# Altium footprint library DSUB_15position_5748026_1.PcbLib: 1 footprints
Each footprint in its own frame and in the unit in brackets; x right, y up, seen from the top. Pads: shape width x height; smd on the part's side, far side on the other; paste and mask are expansions set on the pad; w line width, h text height; cw(c..) or ccw(c..) is an arc to the next point about the centre after c.
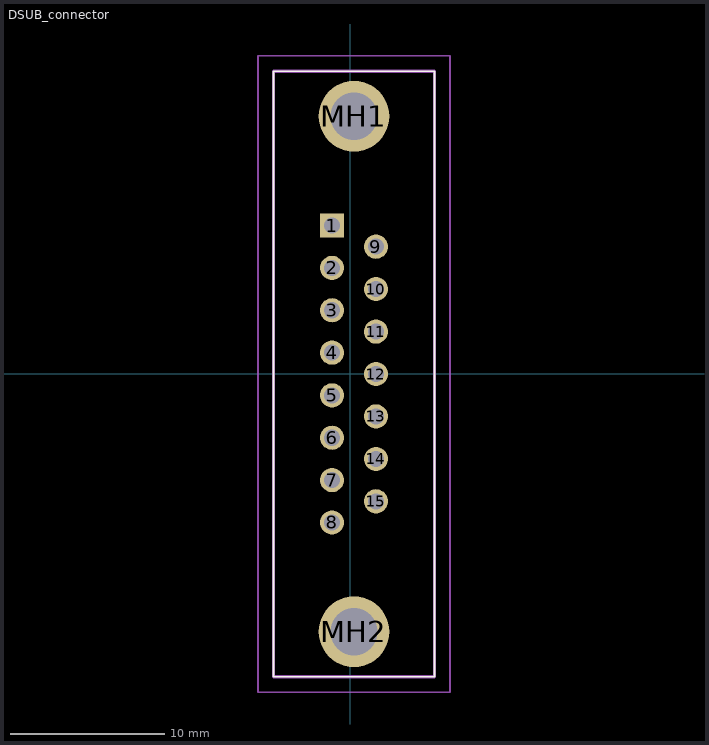
[diagram p0: the footprint, top view; thin cyan lines are the x and y axes]

## DSUB_connector [mm]
pads (17):
  rect 1.56x1.56 hole 1.04: 1(-1.189,9.597)
  round 1.56 hole 1.04: 2(-1.189,6.857) 3(-1.189,4.117) 4(-1.189,1.377) 5(-1.189,-1.383) 6(-1.189,-4.123) 7(-1.189,-6.863) 8(-1.189,-9.603) 9(1.651,8.227) 10(1.651,5.487) 11(1.651,2.737) 12(1.651,-0.003) 13(1.651,-2.743) 14(1.651,-5.493) 15(1.651,-8.233)
  round 4.575 hole 3.05: MH1(0.231,16.657) MH2(0.231,-16.663)
Top Overlay:
  lines w0.1: -4.974,-19.573 -4.974,19.567 5.436,19.567 5.436,-19.573 -4.974,-19.573
Mechanical 13:
  lines w0.2: -4.974,-19.573 -4.974,19.567 5.436,19.567 5.436,-19.573 -4.974,-19.573
Mechanical 15:
  lines w0.1: -5.974,-20.573 -5.974,20.567 6.436,20.567 6.436,-20.573 -5.974,-20.573
3D body "c-5748026-1-b-3d.stp": height 12.7, standoff -3.2, extent -6.248,-19.736 6.35,19.482